# Altium footprint library ddrlegobrick.PcbLib: 29 footprints (part 1 of 2)
Each footprint in its own frame and in the unit in brackets; x right, y up, seen from the top. Pads: shape width x height; smd on the part's side, far side on the other; paste and mask are expansions set on the pad; w line width, h text height; cw(c..) or ccw(c..) is an arc to the next point about the centre after c.
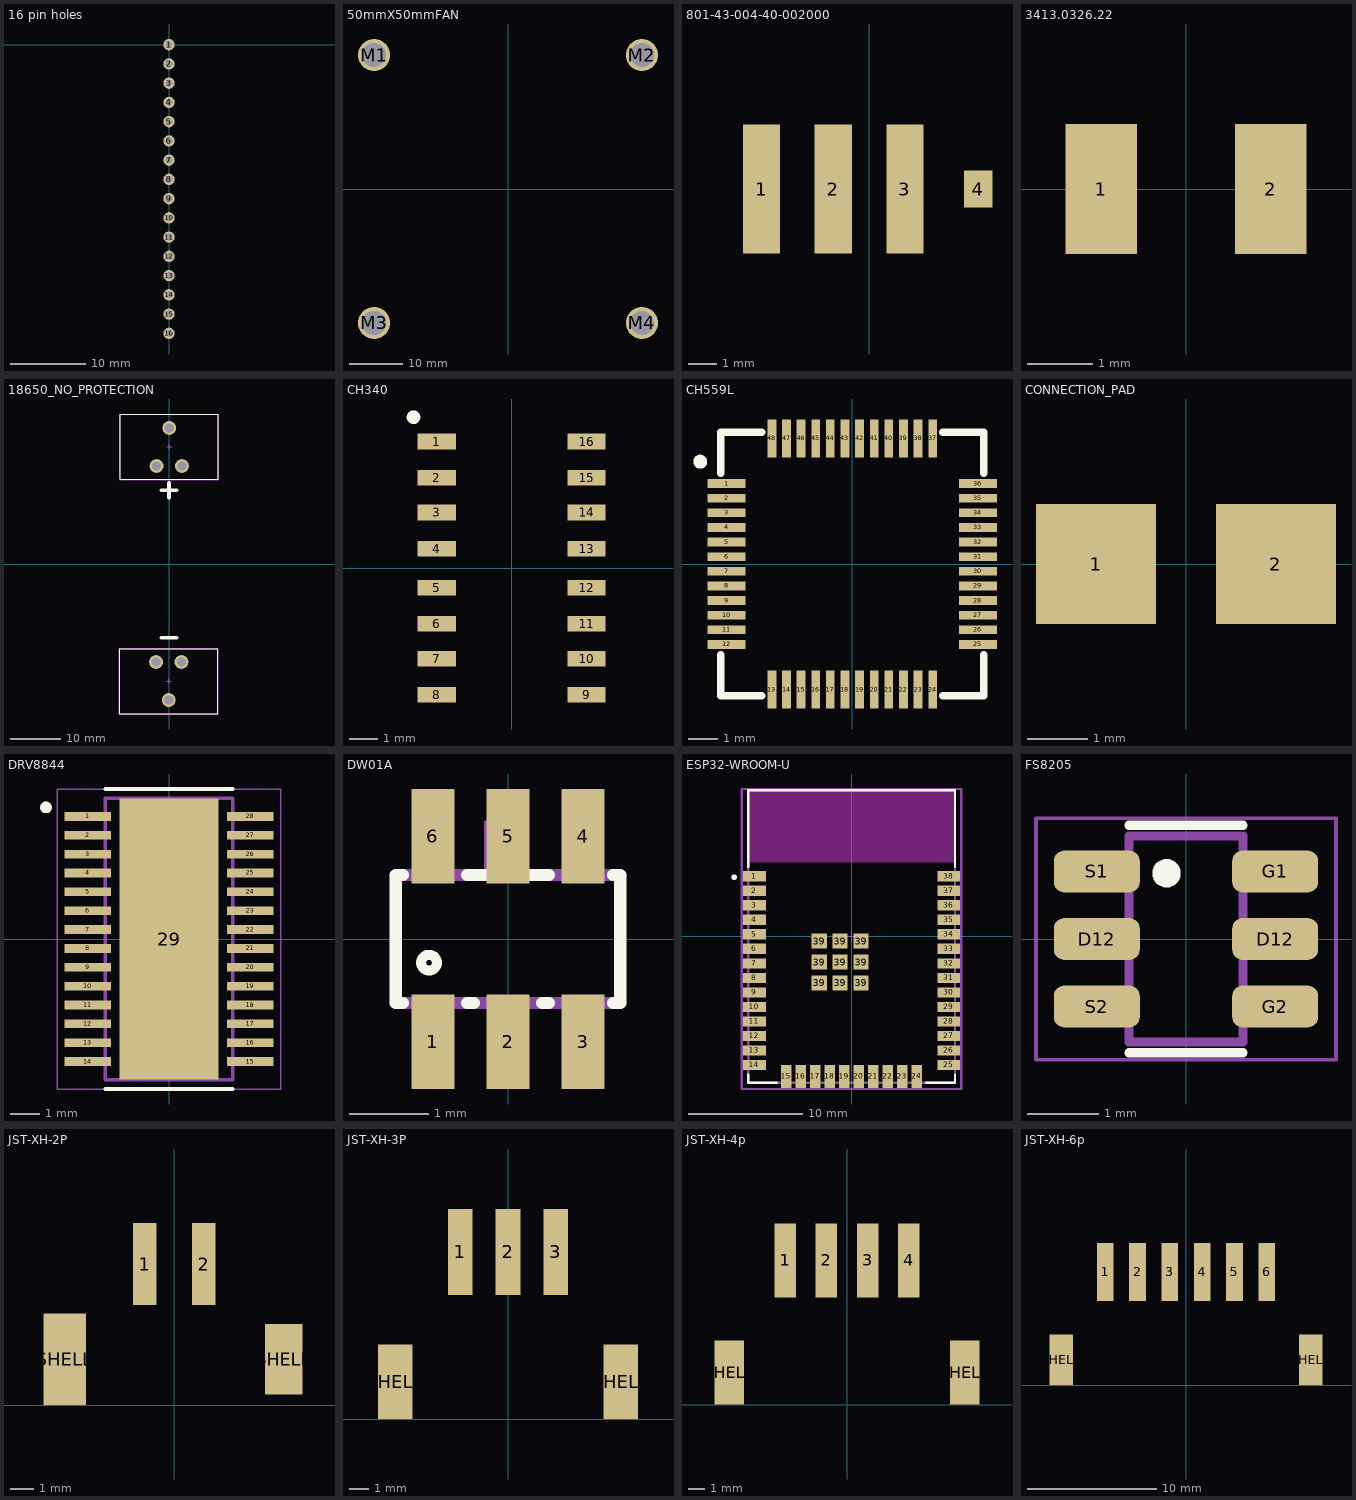
[diagram p0: the footprints below, top view; thin cyan lines are the x and y axes]

## 16 pin holes [mm]
pads (16):
  round 1.5 hole 0.9: 1(0,0) 2(0,-2.54) 3(0,-5.08) 4(0,-7.62) 5(0,-10.16) 6(0,-12.7) 7(0,-15.24) 8(0,-17.78) 9(0,-20.32) 10(0,-22.86) 11(0,-25.4) 12(0,-27.94) 13(0,-30.48) 14(0,-33.02) 15(0,-35.56) 16(0,-38.1)

## 50mmX50mmFAN [mm]
pads (4):
  round 6 hole 4.5: M1(-25,25) M2(25,25) M3(-25,-25) M4(25,-25)

## 801-43-004-40-002000 [mm]
pads (4):
  rect 1.3x4.5 smd: 1(-3.75,8.75) 2(-1.25,8.75) 3(1.25,8.75)
  rect 1x1.3 smd: 4(3.81,8.75)

## 3413.0326.22 [mm]
pads (2):
  rect 1.1x2 smd: 1(-1.3,0) 2(1.3,0)
3D body "3413.0326.22.step": height 0.67, standoff 0, extent -1.624,-0.7 1.6,0.9

## 18650_NO_PROTECTION [mm]
pads (6):
  round 2.78 hole 1.83 paste-1000 mask+0: BAT+(-2.49,19.64) BAT+(0.05,27.26) BAT+(2.59,19.64) BAT-(-2.59,-19.64) BAT-(-0.05,-27.26) BAT-(2.49,-19.64)
Top Overlay:
  lines w0.2: -9.85,-29.95 9.75,-29.95 9.75,-16.95 -9.85,-16.95 -9.85,-29.95 ; -9.75,16.95 9.85,16.95 9.85,29.95 -9.75,29.95 -9.75,16.95
  lines w0.75: -1.5,-14.75 0,-14.75 1.5,-14.75 ; -1.5,14.75 0,14.75 1.5,14.75 ; 0,13.25 0,16.25
Top 3D Body:
  lines w0.2: -9.85,-29.95 9.75,-29.95 9.75,-16.95 -9.85,-16.95 -9.85,-29.95 ; -9.75,16.95 9.85,16.95 9.85,29.95 -9.75,29.95 -9.75,16.95
Top Courtyard:
  lines w0.2: -9.95,-30.05 9.85,-30.05 9.85,-16.85 -9.95,-16.85 -9.95,-30.05 ; -9.85,16.85 9.95,16.85 9.95,30.05 -9.85,30.05 -9.85,16.85
Top Assembly:
  lines w0.2: -9.95,-30.05 9.85,-30.05 9.85,-16.85 -9.95,-16.85 -9.95,-30.05 ; -9.85,16.85 9.95,16.85 9.95,30.05 -9.85,30.05 -9.85,16.85
  text ".Designator" at -0.05,-23.45 h1
  text ".Designator" at 0.05,23.45 h1
Top Component Center:
  lines w0.1: -0.55,-23.45 0.45,-23.45 ; -0.45,23.45 0.55,23.45 ; -0.05,-23.95 -0.05,-22.95 ; 0.05,22.95 0.05,23.95
3D body "KEYELCO_54.STEP": height 18.16, standoff -3.05, extent -9.494,-30.87 9.393,-17.863
3D body "KEYELCO_54.STEP": height 18.16, standoff -3.05, extent -9.393,17.863 9.494,30.87

## CH340 [mm]
pads (16):
  rect 1.35x0.55 smd mask+0.05: 1(-2.625,4.445) 2(-2.625,3.175) 3(-2.625,1.955) 4(-2.625,0.685) 5(-2.625,-0.685) 6(-2.625,-1.955) 7(-2.625,-3.175) 8(-2.625,-4.445) 9(2.625,-4.445) 10(2.625,-3.175) 11(2.625,-1.955) 12(2.625,-0.685) 13(2.625,0.685) 14(2.625,1.955) 15(2.625,3.175) 16(2.625,4.445)
Top Overlay:
  circle w0.254: c-3.45,5.3 r0.112
3D body "SO16 Narrow 3.9mm.step": height 1.35, standoff 0, extent -2.99,-4.95 2.99,4.95

## CH559L [mm]
pads (48):
  rect 1.3x0.3 smd mask+0.05: 1(-4.3,2.75) 2(-4.3,2.25) 3(-4.3,1.75) 4(-4.3,1.25) 5(-4.3,0.75) 6(-4.3,0.25) 7(-4.3,-0.25) 8(-4.3,-0.75) 9(-4.3,-1.25) 10(-4.3,-1.75) 11(-4.3,-2.25) 12(-4.3,-2.75) 25(4.3,-2.75) 26(4.3,-2.25) 27(4.3,-1.75) 28(4.3,-1.25) 29(4.3,-0.75) 30(4.3,-0.25) 31(4.3,0.25) 32(4.3,0.75) 33(4.3,1.25) 34(4.3,1.75) 35(4.3,2.25) 36(4.3,2.75)
  rect 0.3x1.3 smd mask+0.05: 13(-2.75,-4.3) 14(-2.25,-4.3) 15(-1.75,-4.3) 16(-1.25,-4.3) 17(-0.75,-4.3) 18(-0.25,-4.3) 19(0.25,-4.3) 20(0.75,-4.3) 21(1.25,-4.3) 22(1.75,-4.3) 23(2.25,-4.3) 24(2.75,-4.3) 37(2.75,4.3) 38(2.25,4.3) 39(1.75,4.3) 40(1.25,4.3) 41(0.75,4.3) 42(0.25,4.3) 43(-0.25,4.3) 44(-0.75,4.3) 45(-1.25,4.3) 46(-1.75,4.3) 47(-2.25,4.3) 48(-2.75,4.3)
Top Overlay:
  circle w0.254: c-5.2,3.5 r0.112
  lines w0.254: -4.5,-3.1 -4.5,-4.5 -3.1,-4.5 ; -4.5,3.1 -4.5,4.5 -3.1,4.5 ; 3.1,-4.5 4.5,-4.5 4.5,-3.1 ; 3.1,4.5 4.5,4.5 4.5,3.1
3D body "LQFP-48_7x7mm_P0.5mm.step": height 1.5, standoff 0, extent -4.5,-4.5 4.5,4.5

## CONNECTION_PAD [mm]
pads (2):
  rect 2x2 smd: 1(-1.5,0) 2(1.5,0)

## DRV8844 [mm]
pads (29):
  rect 1.6x0.3 smd paste-2 mask+0: 1(-2.8,4.225) 2(-2.8,3.575) 3(-2.8,2.925) 4(-2.8,2.275) 5(-2.8,1.625) 6(-2.8,0.975) 7(-2.8,0.325) 8(-2.8,-0.325) 9(-2.8,-0.975) 10(-2.8,-1.625) 11(-2.8,-2.275) 12(-2.8,-2.925) 13(-2.8,-3.575) 14(-2.8,-4.225) 15(2.8,-4.225) 16(2.8,-3.575) 17(2.8,-2.925) 18(2.8,-2.275) 19(2.8,-1.625) 20(2.8,-0.975) 21(2.8,-0.325) 22(2.8,0.325) 23(2.8,0.975) 24(2.8,1.625) 25(2.8,2.275) 26(2.8,2.925) 27(2.8,3.575) 28(2.8,4.225)
  rect 3.4x9.7 smd paste-6 mask+0: 29(0,0)
Top Overlay:
  circle w0.2: c-4.24,4.535 r0.1
  lines w0.127: -2.2,-5.17 2.2,-5.17 ; -2.2,5.17 2.2,5.17
Top Paste:
  region: 3.575,-4.35 2.025,-4.35 2.025,-4.1 3.575,-4.1
  region: 3.575,-3.7 2.025,-3.7 2.025,-3.45 3.575,-3.45
  region: 3.575,-3.05 2.025,-3.05 2.025,-2.8 3.575,-2.8
  region: 3.575,-2.4 2.025,-2.4 2.025,-2.15 3.575,-2.15
  region: 3.575,-1.75 2.025,-1.75 2.025,-1.5 3.575,-1.5
  region: 3.575,-1.1 2.025,-1.1 2.025,-0.85 3.575,-0.85
  region: 3.575,-0.45 2.025,-0.45 2.025,-0.2 3.575,-0.2
  region: -2.025,-4.35 -3.575,-4.35 -3.575,-4.1 -2.025,-4.1
  region: -2.025,-3.7 -3.575,-3.7 -3.575,-3.45 -2.025,-3.45
  region: -2.025,-3.05 -3.575,-3.05 -3.575,-2.8 -2.025,-2.8
  region: -2.025,-2.4 -3.575,-2.4 -3.575,-2.15 -2.025,-2.15
  region: -2.025,-1.75 -3.575,-1.75 -3.575,-1.5 -2.025,-1.5
  region: -2.025,-1.1 -3.575,-1.1 -3.575,-0.85 -2.025,-0.85
  region: -2.025,-0.45 -3.575,-0.45 -3.575,-0.2 -2.025,-0.2
  region: 3.575,0.2 2.025,0.2 2.025,0.45 3.575,0.45
  region: -2.025,0.2 -3.575,0.2 -3.575,0.45 -2.025,0.45
  region: 3.575,0.85 2.025,0.85 2.025,1.1 3.575,1.1
  region: -2.025,0.85 -3.575,0.85 -3.575,1.1 -2.025,1.1
  region: 3.575,1.5 2.025,1.5 2.025,1.75 3.575,1.75
  region: -2.025,1.5 -3.575,1.5 -3.575,1.75 -2.025,1.75
  region: 3.575,2.15 2.025,2.15 2.025,2.4 3.575,2.4
  region: -2.025,2.15 -3.575,2.15 -3.575,2.4 -2.025,2.4
  region: 3.575,2.8 2.025,2.8 2.025,3.05 3.575,3.05
  region: -2.025,2.8 -3.575,2.8 -3.575,3.05 -2.025,3.05
  region: 3.575,3.45 2.025,3.45 2.025,3.7 3.575,3.7
  region: -2.025,3.45 -3.575,3.45 -3.575,3.7 -2.025,3.7
  region: 3.575,4.1 2.025,4.1 2.025,4.35 3.575,4.35
  region: -2.025,4.1 -3.575,4.1 -3.575,4.35 -2.025,4.35
  region: 1.2,-3.23 -1.2,-3.23 -1.2,3.23 1.2,3.23
Top Solder:
  region: 3.67,-4.445 1.93,-4.445 1.93,-4.005 3.67,-4.005
  region: 3.67,-3.795 1.93,-3.795 1.93,-3.355 3.67,-3.355
  region: 3.67,-3.145 1.93,-3.145 1.93,-2.705 3.67,-2.705
  region: 3.67,-2.495 1.93,-2.495 1.93,-2.055 3.67,-2.055
  region: 3.67,-1.845 1.93,-1.845 1.93,-1.405 3.67,-1.405
  region: 3.67,-1.195 1.93,-1.195 1.93,-0.755 3.67,-0.755
  region: 3.67,-0.545 1.93,-0.545 1.93,-0.105 3.67,-0.105
  region: -1.93,-4.445 -3.67,-4.445 -3.67,-4.005 -1.93,-4.005
  region: -1.93,-3.795 -3.67,-3.795 -3.67,-3.355 -1.93,-3.355
  region: -1.93,-3.145 -3.67,-3.145 -3.67,-2.705 -1.93,-2.705
  region: -1.93,-2.495 -3.67,-2.495 -3.67,-2.055 -1.93,-2.055
  region: -1.93,-1.845 -3.67,-1.845 -3.67,-1.405 -1.93,-1.405
  region: -1.93,-1.195 -3.67,-1.195 -3.67,-0.755 -1.93,-0.755
  region: -1.93,-0.545 -3.67,-0.545 -3.67,-0.105 -1.93,-0.105
  region: 3.67,0.105 1.93,0.105 1.93,0.545 3.67,0.545
  region: -1.93,0.105 -3.67,0.105 -3.67,0.545 -1.93,0.545
  region: 3.67,0.755 1.93,0.755 1.93,1.195 3.67,1.195
  region: -1.93,0.755 -3.67,0.755 -3.67,1.195 -1.93,1.195
  region: 3.67,1.405 1.93,1.405 1.93,1.845 3.67,1.845
  region: -1.93,1.405 -3.67,1.405 -3.67,1.845 -1.93,1.845
  region: 3.67,2.055 1.93,2.055 1.93,2.495 3.67,2.495
  region: -1.93,2.055 -3.67,2.055 -3.67,2.495 -1.93,2.495
  region: 3.67,2.705 1.93,2.705 1.93,3.145 3.67,3.145
  region: -1.93,2.705 -3.67,2.705 -3.67,3.145 -1.93,3.145
  region: 3.67,3.355 1.93,3.355 1.93,3.795 3.67,3.795
  region: -1.93,3.355 -3.67,3.355 -3.67,3.795 -1.93,3.795
  region: 3.67,4.005 1.93,4.005 1.93,4.445 3.67,4.445
  region: -1.93,4.005 -3.67,4.005 -3.67,4.445 -1.93,4.445
  region: 1.2,-3.23 -1.2,-3.23 -1.2,3.23 1.2,3.23
Mechanical 13:
  circle w0.2: c-4.24,4.535 r0.1
  lines w0.127: -2.2,-4.85 -2.2,4.85 2.2,4.85 2.2,-4.85 -2.2,-4.85
Mechanical 15:
  lines w0.05: -3.85,-5.17 -3.85,5.17 3.85,5.17 3.85,-5.17 -3.85,-5.17
3D body "PWP0028C.stp": height 1.13, standoff 0, extent -3.2,-4.85 3.2,4.85

## DW01A [mm]
pads (6):
  rect 0.55x1.2 smd: 1(-0.95,-1.3) 2(0,-1.3) 3(0.95,-1.3) 4(0.95,1.3) 5(0,1.3) 6(-0.95,1.3)
Top Overlay:
  circle w0.127: c-1,-0.3 r0.1
  lines w0.152: -1.328,-0.81 -1.422,-0.81 -1.422,0.81 -1.328,0.81 ; -0.522,-0.81 -0.428,-0.81 ; -0.522,0.81 0.522,0.81 ; 0.428,-0.81 0.522,-0.81 ; 1.328,-0.81 1.422,-0.81 1.422,0.81 1.328,0.81
Mechanical 13:
  region: -0.7,-1.5 -1.2,-1.5 -1.2,-0.85 -0.7,-0.85
  region: 0.25,-1.5 -0.25,-1.5 -0.25,-0.85 0.25,-0.85
  region: 1.2,-1.5 0.7,-1.5 0.7,-0.85 1.2,-0.85
  region: 1.2,0.85 0.7,0.85 0.7,1.5 1.2,1.5
  region: -0.7,0.85 -1.2,0.85 -1.2,1.5 -0.7,1.5
  region: 0.2,0.85 -0.3,0.85 -0.3,1.5 0.2,1.5
  lines w0.152: -1.422,-0.81 1.422,-0.81 ; -1.422,0.81 1.422,0.81
3D body "SOT23-6.stp": height 1.2, standoff 0.02, extent -1.5,-1.418 1.5,1.418

## ESP32-WROOM-U [mm]
pads (47):
  rect 2x0.9 smd paste+0 mask+0: 1(-8.5,5.26) 2(-8.5,3.99) 3(-8.5,2.72) 4(-8.5,1.45) 5(-8.5,0.18) 6(-8.5,-1.09) 7(-8.5,-2.36) 8(-8.5,-3.63) 9(-8.5,-4.9) 10(-8.5,-6.17) 11(-8.5,-7.44) 12(-8.5,-8.71) 13(-8.5,-9.98) 14(-8.5,-11.25) 25(8.5,-11.25) 26(8.5,-9.98) 27(8.5,-8.71) 28(8.5,-7.44) 29(8.5,-6.17) 30(8.5,-4.9) 31(8.5,-3.63) 32(8.5,-2.36) 33(8.5,-1.09) 34(8.5,0.18) 35(8.5,1.45) 36(8.5,2.72) 37(8.5,3.99) 38(8.5,5.26)
  rect 0.9x2 smd paste+0 mask+0: 15(-5.715,-12.25) 16(-4.445,-12.25) 17(-3.175,-12.25) 18(-1.905,-12.25) 19(-0.635,-12.25) 20(0.635,-12.25) 21(1.905,-12.25) 22(3.175,-12.25) 23(4.445,-12.25) 24(5.715,-12.25)
  rect 1.33x1.33 smd paste+0 mask+0: 39(-2.835,-4.075) 39(-2.835,-2.24) 39(-2.835,-0.405) 39(-1,-4.075) 39(-1,-2.24) 39(-1,-0.405) 39(0.835,-4.075) 39(0.835,-2.24) 39(0.835,-0.405)
Top Overlay:
  circle w0.25: c-10.275,5.185 r0.125
  lines w0.2: -9.05,-12.075 -9.05,-12.8 -6.54,-12.8 ; -9.05,6.085 -9.05,12.8 9.05,12.8 9.05,6.085 ; 6.54,-12.8 9.05,-12.8 9.05,-12.075
Keep-Out Layer:
  rectangle: -9,6.45 9,12.75
  rectangle: -9,6.45 9,12.75
Top 3D Body:
  lines w0.2: -9.05,-12.8 9.05,-12.8 9.05,12.8 -9.05,12.8 -9.05,-12.8
Top Courtyard:
  lines w0.2: -9.6,-13.35 9.6,-13.35 9.6,12.9 -9.6,12.9 -9.6,-13.35
Top Assembly:
  lines w0.2: -9.6,-13.35 9.6,-13.35 9.6,12.9 -9.6,12.9 -9.6,-13.35
  text ".Designator" at 0,-0.037 h1
Top Component Center:
  lines w0.1: -0.5,0 0.5,0 ; 0,-0.5 0,0.5
3D body "UNK_Espressif_Systems_ESP32-WROOM-32D_eec.STEP": height 0.25, standoff 0, extent -9.6,-13.35 9.6,12.9

## FS8205 [mm]
pads (6):
  rrect50% 1.21x0.59 smd: D12(-1.255,0) D12(1.255,0) G1(1.255,0.95) G2(1.255,-0.95) S1(-1.255,0.95) S2(-1.255,-0.95)
Top Overlay:
  circle w0.2: c-0.275,0.925 r0.1
  lines w0.127: -0.8,-1.6 0.8,-1.6 ; -0.8,1.6 0.8,1.6
Mechanical 13:
  lines w0.127: -0.8,-1.45 -0.8,1.45 0.8,1.45 0.8,-1.45 -0.8,-1.45
Mechanical 15:
  lines w0.05: -2.11,-1.7 -2.11,1.7 2.11,1.7 2.11,-1.7 -2.11,-1.7
3D body "SOT23-6.stp": height 1.2, standoff 0.02, extent -1.418,-1.5 1.418,1.5

## JST-XH-2P [mm]
pads (4):
  rect 1x3.5 smd: 1(-1.25,6) 2(1.25,6)
  rect 1.8x3.9 smd: SHELL(-4.65,1.95)
  rect 1.6x3 smd: SHELL(4.65,1.95)
3D body "2pin_2mm.STEP": height 6.76, standoff 0.01, extent -3.975,0 3.975,7

## JST-XH-3P [mm]
pads (5):
  rect 1.3x4.5 smd: 1(-2.5,8.75) 2(0,8.75) 3(2.5,8.75)
  rect 1.8x3.9 smd: SHELL(-5.9,1.95) SHELL(5.9,1.95)
3D body "JST - XH - SMD (R) - 3Pin - 2.54mm.stp": height 5.92, standoff 0, extent -6.337,-0.206 6.337,9.7

## JST-XH-4p [mm]
pads (6):
  rect 1.3x4.5 smd: 1(-3.75,8.75) 2(-1.25,8.75) 3(1.25,8.75) 4(3.75,8.75)
  rect 1.8x3.9 smd: SHELL(-7.15,1.95) SHELL(7.15,1.95)
3D body "JST - XH - SMD (R) - 4Pin - 2.54mm.stp": height 5.92, standoff 0, extent -7.607,-0.206 7.607,9.7

## JST-XH-6p [mm]
pads (8):
  rect 1.3x4.5 smd: 1(-6.25,8.75) 2(-3.75,8.75) 3(-1.25,8.75) 4(1.25,8.75) 5(3.75,8.75) 6(6.25,8.75)
  rect 1.8x3.9 smd: SHELL(-9.65,1.95) SHELL(9.65,1.95)
3D body "JST - XH - SMD (R) - 6Pin - 2.54mm.stp": height 5.92, standoff 0, extent -10.147,-0.206 10.147,9.7